# Altium footprint library gui.PcbLib: 4 footprints
Each footprint in its own frame and in the unit in brackets; x right, y up, seen from the top. Pads: shape width x height; smd on the part's side, far side on the other; paste and mask are expansions set on the pad; w line width, h text height; cw(c..) or ccw(c..) is an arc to the next point about the centre after c.
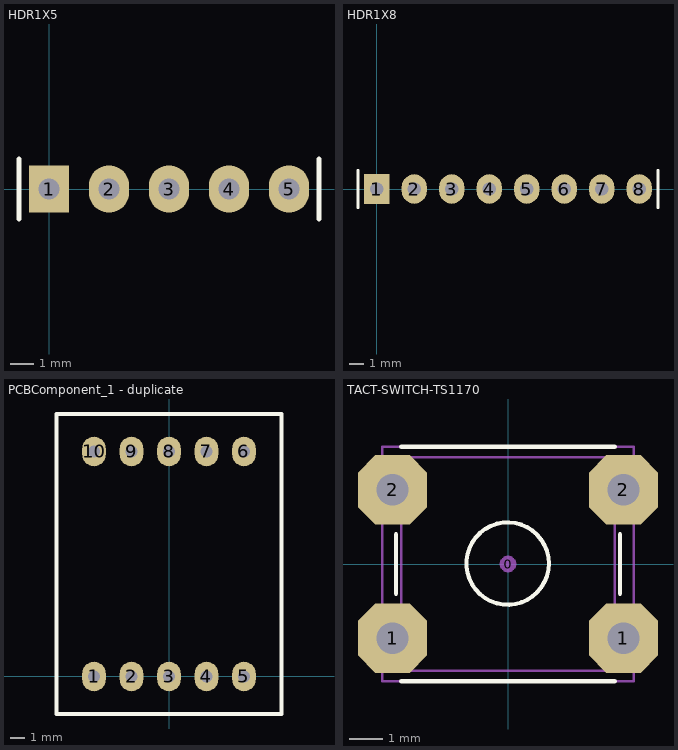
[diagram p0: the footprints below, top view; thin cyan lines are the x and y axes]

## HDR1X5 [mm] "Connector; Header; 5 Position"
height 0.7
pads (5):
  rect 1.7x2 hole 0.9: 1(0,0)
  oval 1.7x2 hole 0.9: 2(2.54,0) 3(5.08,0) 4(7.62,0) 5(10.16,0)
Top Overlay:
  lines w0.2: -1.27,-1.27 -1.27,1.27 ; 11.43,-1.27 11.43,1.27

## HDR1X8 [mm] "Connector; Header; 8 Position"
height 0.7
pads (8):
  rect 1.7x2 hole 0.9: 1(0,0)
  oval 1.7x2 hole 0.9: 2(2.54,0) 3(5.08,0) 4(7.62,0) 5(10.16,0) 6(12.7,0) 7(15.24,0) 8(17.78,0)
Top Overlay:
  lines w0.2: -1.27,-1.27 -1.27,1.27 ; 19.05,-1.27 19.05,1.27

## PCBComponent_1 - duplicate [mm]
pads (10):
  oval 1.6x2 hole 0.8: 1(-5.08,0) 2(-2.54,0) 3(0,0) 4(2.54,0) 5(5.08,0) 6(5.08,15.24) 7(2.54,15.24) 8(0,15.24) 9(-2.54,15.24) 10(-5.08,15.24)
Top Overlay:
  lines w0.254: -7.62,-2.54 7.62,-2.54 7.62,17.78 -7.62,17.78 -7.62,-2.54

## TACT-SWITCH-TS1170 [mm] "Bondtact sealed TH tact switch"
height 6.985
pads (5):
  round 0.508 on Mech15: 0(0,0)
  oct 2.1x2.1 hole 0.965: 1(-3.5,-2.25) 1(3.5,-2.25) 2(-3.5,2.25) 2(3.5,2.25)
Top Overlay:
  circle w0.127: c-0.011,0.014 r1.25
  lines w0.127: -3.4,-0.9 -3.4,0.9 ; -3.239,-3.556 3.24,-3.556 ; -3.236,3.556 3.236,3.556 ; 3.4,-0.9 3.4,0.9
Mechanical 13:
  circle w0.076: c-0.011,0.014 r1.25
  lines w0.076: -3.232,-3.237 3.24,-3.237 3.24,3.24 -3.232,3.24 -3.232,-3.237
Mechanical 15:
  lines w0.076: -3.81,-3.556 -3.81,3.556 3.81,3.556 3.81,-3.556 -3.81,-3.556
3D body: height 7, standoff -3.5, extent -4.134,-3.25 4.134,3.25